# Altium footprint library HD3SS6126RUAR.PcbLib: 4 footprints
Each footprint in its own frame and in the unit in brackets; x right, y up, seen from the top. Pads: shape width x height; smd on the part's side, far side on the other; paste and mask are expansions set on the pad; w line width, h text height; cw(c..) or ccw(c..) is an arc to the next point about the centre after c.
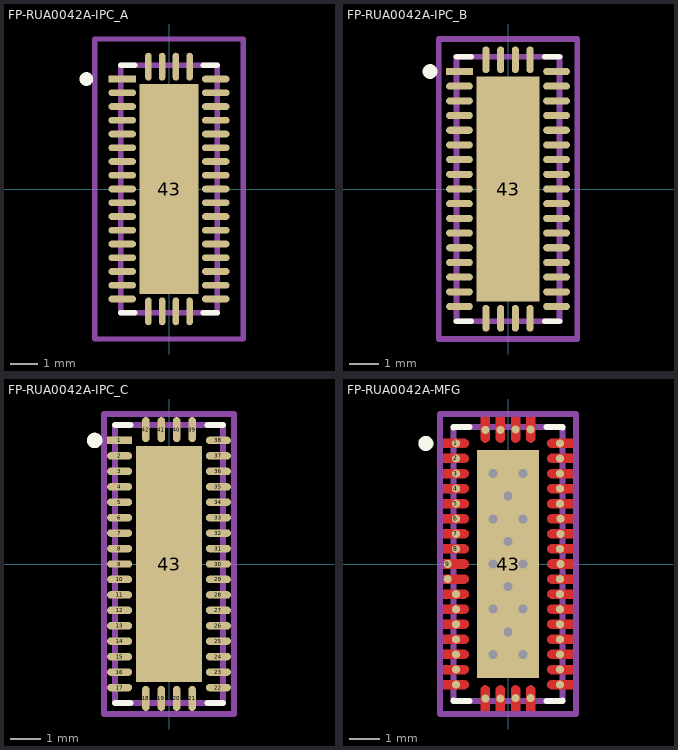
[diagram p0: the footprints below, top view; thin cyan lines are the x and y axes]

## FP-RUA0042A-IPC_A [mm]
pads (43):
  rect 1.01x0.242 smd paste+0 mask+0: 1(-1.701,4)
  rrect100% 1.01x0.242 smd paste+0 mask+0: 2(-1.701,3.5) 3(-1.701,3) 4(-1.701,2.5) 5(-1.701,2) 6(-1.701,1.5) 7(-1.701,1) 8(-1.701,0.5) 9(-1.701,0) 10(-1.701,-0.5) 11(-1.701,-1) 12(-1.701,-1.5) 13(-1.701,-2) 14(-1.701,-2.5) 15(-1.701,-3) 16(-1.701,-3.5) 17(-1.701,-4) 22(1.701,-4) 23(1.701,-3.5) 24(1.701,-3) 25(1.701,-2.5) 26(1.701,-2) 27(1.701,-1.5) 28(1.701,-1) 29(1.701,-0.5) 30(1.701,0) 31(1.701,0.5) 32(1.701,1) 33(1.701,1.5) 34(1.701,2) 35(1.701,2.5) 36(1.701,3) 37(1.701,3.5) 38(1.701,4)
  rrect100% 0.242x1.01 smd paste+0 mask+0: 18(-0.75,-4.451) 19(-0.25,-4.451) 20(0.25,-4.451) 21(0.75,-4.451) 39(0.75,4.451) 40(0.25,4.451) 41(-0.25,4.451) 42(-0.75,4.451)
  rect 2.15x7.65 smd paste-1000 mask+0: 43(0,0)
Top Overlay:
  circle w0.25: c-3.006,4 r0.125
  lines w0.2: -1.75,-4.5 -1.25,-4.5 ; -1.75,4.5 -1.25,4.5 ; 1.25,-4.5 1.75,-4.5 ; 1.25,4.5 1.75,4.5
Top Paste:
  rectangle: -0.771,1.376 0.771,3.521
  rectangle: -0.771,-1.072 0.771,1.072
  rectangle: -0.771,-3.521 0.771,-1.376
Top Assembly:
  lines w0.2: -2.706,-5.456 2.706,-5.456 2.706,5.456 -2.706,5.456 -2.706,-5.456
  text ".Designator" at 0,-0.001 h1
Top 3D Body:
  lines w0.2: -1.75,-4.5 1.75,-4.5 1.75,4.5 -1.75,4.5 -1.75,-4.5
Top Courtyard:
  lines w0.2: -2.706,-5.456 2.706,-5.456 2.706,5.456 -2.706,5.456 -2.706,-5.456
Top Component Center:
  lines w0.1: -0.5,0 0.5,0 ; 0,-0.5 0,0.5
3D body "IC_Texas_Instruments_HD3SS6126RUAR_eec.STEP": height 0.25, standoff 0, extent -2.706,-5.456 2.706,5.456

## FP-RUA0042A-IPC_B [mm]
pads (43):
  rect 0.91x0.242 smd paste+0 mask+0: 1(-1.651,4)
  rrect100% 0.91x0.242 smd paste+0 mask+0: 2(-1.651,3.5) 3(-1.651,3) 4(-1.651,2.5) 5(-1.651,2) 6(-1.651,1.5) 7(-1.651,1) 8(-1.651,0.5) 9(-1.651,0) 10(-1.651,-0.5) 11(-1.651,-1) 12(-1.651,-1.5) 13(-1.651,-2) 14(-1.651,-2.5) 15(-1.651,-3) 16(-1.651,-3.5) 17(-1.651,-4) 22(1.651,-4) 23(1.651,-3.5) 24(1.651,-3) 25(1.651,-2.5) 26(1.651,-2) 27(1.651,-1.5) 28(1.651,-1) 29(1.651,-0.5) 30(1.651,0) 31(1.651,0.5) 32(1.651,1) 33(1.651,1.5) 34(1.651,2) 35(1.651,2.5) 36(1.651,3) 37(1.651,3.5) 38(1.651,4)
  rrect100% 0.242x0.91 smd paste+0 mask+0: 18(-0.75,-4.401) 19(-0.25,-4.401) 20(0.25,-4.401) 21(0.75,-4.401) 39(0.75,4.401) 40(0.25,4.401) 41(-0.25,4.401) 42(-0.75,4.401)
  rect 2.15x7.65 smd paste-1000 mask+0: 43(0,0)
Top Overlay:
  circle w0.25: c-2.656,4 r0.125
  lines w0.2: -1.25,-4.5 -1.75,-4.5 ; -1.25,4.5 -1.75,4.5 ; 1.25,-4.5 1.75,-4.5 ; 1.25,4.5 1.75,4.5 ; -1.75,-4.5 -1.75,-4.5 ; -1.75,4.5 -1.75,4.5 ; 1.75,-4.5 1.75,-4.5 ; 1.75,4.5 1.75,4.5
Top Paste:
  rectangle: -0.771,1.376 0.771,3.521
  rectangle: -0.771,-1.072 0.771,1.072
  rectangle: -0.771,-3.521 0.771,-1.376
Top Assembly:
  lines w0.2: -2.356,-5.106 2.356,-5.106 2.356,5.106 -2.356,5.106 -2.356,-5.106
  text ".Designator" at 0,-0.001 h1
Top 3D Body:
  lines w0.2: -1.75,-4.5 1.75,-4.5 1.75,4.5 -1.75,4.5 -1.75,-4.5
Top Courtyard:
  lines w0.2: -2.356,-5.106 2.356,-5.106 2.356,5.106 -2.356,5.106 -2.356,-5.106
Top Component Center:
  lines w0.1: -0.5,0 0.5,0 ; 0,-0.5 0,0.5
3D body "IC_Texas_Instruments_HD3SS6126RUAR_eec.STEP": height 0.25, standoff 0, extent -2.356,-5.106 2.356,5.106

## FP-RUA0042A-IPC_C [mm]
pads (43):
  rect 0.81x0.242 smd paste+0 mask+0: 1(-1.601,4)
  rrect100% 0.81x0.242 smd paste+0 mask+0: 2(-1.601,3.5) 3(-1.601,3) 4(-1.601,2.5) 5(-1.601,2) 6(-1.601,1.5) 7(-1.601,1) 8(-1.601,0.5) 9(-1.601,0) 10(-1.601,-0.5) 11(-1.601,-1) 12(-1.601,-1.5) 13(-1.601,-2) 14(-1.601,-2.5) 15(-1.601,-3) 16(-1.601,-3.5) 17(-1.601,-4) 22(1.601,-4) 23(1.601,-3.5) 24(1.601,-3) 25(1.601,-2.5) 26(1.601,-2) 27(1.601,-1.5) 28(1.601,-1) 29(1.601,-0.5) 30(1.601,0) 31(1.601,0.5) 32(1.601,1) 33(1.601,1.5) 34(1.601,2) 35(1.601,2.5) 36(1.601,3) 37(1.601,3.5) 38(1.601,4)
  rrect100% 0.242x0.81 smd paste+0 mask+0: 18(-0.75,-4.351) 19(-0.25,-4.351) 20(0.25,-4.351) 21(0.75,-4.351) 39(0.75,4.351) 40(0.25,4.351) 41(-0.25,4.351) 42(-0.75,4.351)
  rect 2.15x7.65 smd paste-1000 mask+0: 43(0,0)
Top Overlay:
  circle w0.25: c-2.406,4 r0.125
  lines w0.2: -1.25,-4.5 -1.75,-4.5 ; -1.25,4.5 -1.75,4.5 ; 1.25,-4.5 1.75,-4.5 ; 1.25,4.5 1.75,4.5 ; -1.75,-4.5 -1.75,-4.5 ; -1.75,4.5 -1.75,4.5 ; 1.75,-4.5 1.75,-4.5 ; 1.75,4.5 1.75,4.5
Top Paste:
  rectangle: -0.771,1.376 0.771,3.521
  rectangle: -0.771,-1.072 0.771,1.072
  rectangle: -0.771,-3.521 0.771,-1.376
Top Assembly:
  lines w0.2: -2.106,-4.856 2.106,-4.856 2.106,4.856 -2.106,4.856 -2.106,-4.856
  text ".Designator" at 0,-0.001 h1
Top 3D Body:
  lines w0.2: -1.75,-4.5 1.75,-4.5 1.75,4.5 -1.75,4.5 -1.75,-4.5
Top Courtyard:
  lines w0.2: -2.106,-4.856 2.106,-4.856 2.106,4.856 -2.106,4.856 -2.106,-4.856
Top Component Center:
  lines w0.1: -0.5,0 0.5,0 ; 0,-0.5 0,0.5
3D body "IC_Texas_Instruments_HD3SS6126RUAR_eec.STEP": height 0.25, standoff 0, extent -2.106,-4.856 2.106,4.856

## FP-RUA0042A-MFG [mm]
pads (53):
  round 0.27 smd paste-1000 mask+0: 1(-1.725,4) 2(-1.725,3.5) 3(-1.725,3) 4(-1.725,2.5) 5(-1.725,2) 6(-1.725,1.5) 7(-1.725,1) 8(-1.725,0.5) 9(-2,0) 10(-2,-0.5) 11(-1.725,-1) 12(-1.725,-1.5) 13(-1.725,-2) 14(-1.725,-2.5) 15(-1.725,-3) 16(-1.725,-3.5) 17(-1.725,-4) 18(-0.75,-4.465) 19(-0.25,-4.465) 20(0.25,-4.45) 21(0.75,-4.45) 22(1.725,-4) 23(1.725,-3.5) 24(1.725,-3) 25(1.725,-2.5) 26(1.725,-2) 27(1.725,-1.5) 28(1.725,-1) 29(1.725,-0.5) 30(1.74,0) 31(1.725,0.5) 32(1.74,1) 33(1.74,1.5) 34(1.725,2) 35(1.725,2.5) 36(1.725,3) 37(1.725,3.5) 38(1.725,4) 39(0.75,4.465) 40(0.25,4.465) 41(-0.25,4.45) 42(-0.75,4.45)
  rect 2.05x7.55 smd paste-1000 mask+0: 43(0,0)
  round 0.6 hole 0.3 paste-1000 mask+0: ""(-0.5,-3) ""(-0.5,-1.5) ""(-0.5,1.5) ""(-0.5,3) ""(0,-2.25) ""(0,2.25) ""(0.5,-3) ""(0.5,-1.5) ""(0.5,1.5) ""(0.5,3)
via 0.5,0 diameter 0.6 hole 0.3
via -0.5,0 diameter 0.6 hole 0.3
via 0,0.75 diameter 0.6 hole 0.3
via 0,-0.75 diameter 0.6 hole 0.3
Top Layer:
  region: -2.15,4.15 -1.45,4.15 -1.42,4.15 -1.365,4.127 -1.323,4.085 -1.3,4.03 -1.3,4 -1.3,3.97 -1.323,3.915 -1.365,3.873 -1.42,3.85 -1.45,3.85 -2.15,3.85
  region: -2.15,3.65 -1.45,3.65 -1.42,3.65 -1.365,3.627 -1.323,3.585 -1.3,3.53 -1.3,3.5 -1.3,3.47 -1.323,3.415 -1.365,3.373 -1.42,3.35 -1.45,3.35 -2.15,3.35
  region: -2.15,3.15 -1.45,3.15 -1.42,3.15 -1.365,3.127 -1.323,3.085 -1.3,3.03 -1.3,3 -1.3,2.97 -1.323,2.915 -1.365,2.873 -1.42,2.85 -1.45,2.85 -2.15,2.85
  region: -2.15,2.65 -1.45,2.65 -1.42,2.65 -1.365,2.627 -1.323,2.585 -1.3,2.53 -1.3,2.5 -1.3,2.47 -1.323,2.415 -1.365,2.373 -1.42,2.35 -1.45,2.35 -2.15,2.35
  region: -2.15,2.15 -1.45,2.15 -1.42,2.15 -1.365,2.127 -1.323,2.085 -1.3,2.03 -1.3,2 -1.3,1.97 -1.323,1.915 -1.365,1.873 -1.42,1.85 -1.45,1.85 -2.15,1.85
  region: -2.15,1.65 -1.45,1.65 -1.42,1.65 -1.365,1.627 -1.323,1.585 -1.3,1.53 -1.3,1.5 -1.3,1.47 -1.323,1.415 -1.365,1.373 -1.42,1.35 -1.45,1.35 -2.15,1.35
  region: -2.15,1.15 -1.45,1.15 -1.42,1.15 -1.365,1.127 -1.323,1.085 -1.3,1.03 -1.3,1 -1.3,0.97 -1.323,0.915 -1.365,0.873 -1.42,0.85 -1.45,0.85 -2.15,0.85
  region: -2.15,0.65 -1.45,0.65 -1.42,0.65 -1.365,0.627 -1.323,0.585 -1.3,0.53 -1.3,0.5 -1.3,0.47 -1.323,0.415 -1.365,0.373 -1.42,0.35 -1.45,0.35 -2.15,0.35
  region: -2.15,0.15 -1.45,0.15 -1.42,0.15 -1.365,0.127 -1.323,0.085 -1.3,0.03 -1.3,0 -1.3,-0.03 -1.323,-0.085 -1.365,-0.127 -1.42,-0.15 -1.45,-0.15 -2.15,-0.15
  region: -2.15,-0.35 -1.45,-0.35 -1.42,-0.35 -1.365,-0.373 -1.323,-0.415 -1.3,-0.47 -1.3,-0.5 -1.3,-0.53 -1.323,-0.585 -1.365,-0.627 -1.42,-0.65 -1.45,-0.65 -2.15,-0.65
  region: -2.15,-0.85 -1.45,-0.85 -1.42,-0.85 -1.365,-0.873 -1.323,-0.915 -1.3,-0.97 -1.3,-1 -1.3,-1.03 -1.323,-1.085 -1.365,-1.127 -1.42,-1.15 -1.45,-1.15 -2.15,-1.15
  region: -2.15,-1.35 -1.45,-1.35 -1.42,-1.35 -1.365,-1.373 -1.323,-1.415 -1.3,-1.47 -1.3,-1.5 -1.3,-1.53 -1.323,-1.585 -1.365,-1.627 -1.42,-1.65 -1.45,-1.65 -2.15,-1.65
  region: -2.15,-1.85 -1.45,-1.85 -1.42,-1.85 -1.365,-1.873 -1.323,-1.915 -1.3,-1.97 -1.3,-2 -1.3,-2.03 -1.323,-2.085 -1.365,-2.127 -1.42,-2.15 -1.45,-2.15 -2.15,-2.15
  region: -2.15,-2.35 -1.45,-2.35 -1.42,-2.35 -1.365,-2.373 -1.323,-2.415 -1.3,-2.47 -1.3,-2.5 -1.3,-2.53 -1.323,-2.585 -1.365,-2.627 -1.42,-2.65 -1.45,-2.65 -2.15,-2.65
  region: -2.15,-2.85 -1.45,-2.85 -1.42,-2.85 -1.365,-2.873 -1.323,-2.915 -1.3,-2.97 -1.3,-3 -1.3,-3.03 -1.323,-3.085 -1.365,-3.127 -1.42,-3.15 -1.45,-3.15 -2.15,-3.15
  region: -2.15,-3.35 -1.45,-3.35 -1.42,-3.35 -1.365,-3.373 -1.323,-3.415 -1.3,-3.47 -1.3,-3.5 -1.3,-3.53 -1.323,-3.585 -1.365,-3.627 -1.42,-3.65 -1.45,-3.65 -2.15,-3.65
  region: -2.15,-3.85 -1.45,-3.85 -1.42,-3.85 -1.365,-3.873 -1.323,-3.915 -1.3,-3.97 -1.3,-4 -1.3,-4.03 -1.323,-4.085 -1.365,-4.127 -1.42,-4.15 -1.45,-4.15 -2.15,-4.15
  region: -0.9,-4.875 -0.9,-4.175 -0.9,-4.145 -0.877,-4.09 -0.835,-4.048 -0.78,-4.025 -0.75,-4.025 -0.72,-4.025 -0.665,-4.048 -0.623,-4.09 -0.6,-4.145 -0.6,-4.175 -0.6,-4.875
  region: -0.4,-4.875 -0.4,-4.175 -0.4,-4.145 -0.377,-4.09 -0.335,-4.048 -0.28,-4.025 -0.25,-4.025 -0.22,-4.025 -0.165,-4.048 -0.123,-4.09 -0.1,-4.145 -0.1,-4.175 -0.1,-4.875
  region: 0.1,-4.875 0.1,-4.175 0.1,-4.145 0.123,-4.09 0.165,-4.048 0.22,-4.025 0.25,-4.025 0.28,-4.025 0.335,-4.048 0.377,-4.09 0.4,-4.145 0.4,-4.175 0.4,-4.875
  region: 0.6,-4.875 0.6,-4.175 0.6,-4.145 0.623,-4.09 0.665,-4.048 0.72,-4.025 0.75,-4.025 0.78,-4.025 0.835,-4.048 0.877,-4.09 0.9,-4.145 0.9,-4.175 0.9,-4.875
  region: 2.15,-4.15 1.45,-4.15 1.42,-4.15 1.365,-4.127 1.323,-4.085 1.3,-4.03 1.3,-4 1.3,-3.97 1.323,-3.915 1.365,-3.873 1.42,-3.85 1.45,-3.85 2.15,-3.85
  region: 2.15,-3.65 1.45,-3.65 1.42,-3.65 1.365,-3.627 1.323,-3.585 1.3,-3.53 1.3,-3.5 1.3,-3.47 1.323,-3.415 1.365,-3.373 1.42,-3.35 1.45,-3.35 2.15,-3.35
  region: 2.15,-3.15 1.45,-3.15 1.42,-3.15 1.365,-3.127 1.323,-3.085 1.3,-3.03 1.3,-3 1.3,-2.97 1.323,-2.915 1.365,-2.873 1.42,-2.85 1.45,-2.85 2.15,-2.85
  region: 2.15,-2.65 1.45,-2.65 1.42,-2.65 1.365,-2.627 1.323,-2.585 1.3,-2.53 1.3,-2.5 1.3,-2.47 1.323,-2.415 1.365,-2.373 1.42,-2.35 1.45,-2.35 2.15,-2.35
  region: 2.15,-2.15 1.45,-2.15 1.42,-2.15 1.365,-2.127 1.323,-2.085 1.3,-2.03 1.3,-2 1.3,-1.97 1.323,-1.915 1.365,-1.873 1.42,-1.85 1.45,-1.85 2.15,-1.85
  region: 2.15,-1.65 1.45,-1.65 1.42,-1.65 1.365,-1.627 1.323,-1.585 1.3,-1.53 1.3,-1.5 1.3,-1.47 1.323,-1.415 1.365,-1.373 1.42,-1.35 1.45,-1.35 2.15,-1.35
  region: 2.15,-1.15 1.45,-1.15 1.42,-1.15 1.365,-1.127 1.323,-1.085 1.3,-1.03 1.3,-1 1.3,-0.97 1.323,-0.915 1.365,-0.873 1.42,-0.85 1.45,-0.85 2.15,-0.85
  region: 2.15,-0.65 1.45,-0.65 1.42,-0.65 1.365,-0.627 1.323,-0.585 1.3,-0.53 1.3,-0.5 1.3,-0.47 1.323,-0.415 1.365,-0.373 1.42,-0.35 1.45,-0.35 2.15,-0.35
  region: 2.15,-0.15 1.45,-0.15 1.42,-0.15 1.365,-0.127 1.323,-0.085 1.3,-0.03 1.3,0 1.3,0.03 1.323,0.085 1.365,0.127 1.42,0.15 1.45,0.15 2.15,0.15
  region: 2.15,0.35 1.45,0.35 1.42,0.35 1.365,0.373 1.323,0.415 1.3,0.47 1.3,0.5 1.3,0.53 1.323,0.585 1.365,0.627 1.42,0.65 1.45,0.65 2.15,0.65
  region: 2.15,0.85 1.45,0.85 1.42,0.85 1.365,0.873 1.323,0.915 1.3,0.97 1.3,1 1.3,1.03 1.323,1.085 1.365,1.127 1.42,1.15 1.45,1.15 2.15,1.15
  region: 2.15,1.35 1.45,1.35 1.42,1.35 1.365,1.373 1.323,1.415 1.3,1.47 1.3,1.5 1.3,1.53 1.323,1.585 1.365,1.627 1.42,1.65 1.45,1.65 2.15,1.65
  region: 2.15,1.85 1.45,1.85 1.42,1.85 1.365,1.873 1.323,1.915 1.3,1.97 1.3,2 1.3,2.03 1.323,2.085 1.365,2.127 1.42,2.15 1.45,2.15 2.15,2.15
  region: 2.15,2.35 1.45,2.35 1.42,2.35 1.365,2.373 1.323,2.415 1.3,2.47 1.3,2.5 1.3,2.53 1.323,2.585 1.365,2.627 1.42,2.65 1.45,2.65 2.15,2.65
  region: 2.15,2.85 1.45,2.85 1.42,2.85 1.365,2.873 1.323,2.915 1.3,2.97 1.3,3 1.3,3.03 1.323,3.085 1.365,3.127 1.42,3.15 1.45,3.15 2.15,3.15
  region: 2.15,3.35 1.45,3.35 1.42,3.35 1.365,3.373 1.323,3.415 1.3,3.47 1.3,3.5 1.3,3.53 1.323,3.585 1.365,3.627 1.42,3.65 1.45,3.65 2.15,3.65
  region: 2.15,3.85 1.45,3.85 1.42,3.85 1.365,3.873 1.323,3.915 1.3,3.97 1.3,4 1.3,4.03 1.323,4.085 1.365,4.127 1.42,4.15 1.45,4.15 2.15,4.15
  region: 0.9,4.875 0.9,4.175 0.9,4.145 0.877,4.09 0.835,4.048 0.78,4.025 0.75,4.025 0.72,4.025 0.665,4.048 0.623,4.09 0.6,4.145 0.6,4.175 0.6,4.875
  region: 0.4,4.875 0.4,4.175 0.4,4.145 0.377,4.09 0.335,4.048 0.28,4.025 0.25,4.025 0.22,4.025 0.165,4.048 0.123,4.09 0.1,4.145 0.1,4.175 0.1,4.875
  region: -0.1,4.875 -0.1,4.175 -0.1,4.145 -0.123,4.09 -0.165,4.048 -0.22,4.025 -0.25,4.025 -0.28,4.025 -0.335,4.048 -0.377,4.09 -0.4,4.145 -0.4,4.175 -0.4,4.875
  region: -0.6,4.875 -0.6,4.175 -0.6,4.145 -0.623,4.09 -0.665,4.048 -0.72,4.025 -0.75,4.025 -0.78,4.025 -0.835,4.048 -0.877,4.09 -0.9,4.145 -0.9,4.175 -0.9,4.875
Top Overlay:
  circle w0.25: c-2.725,4 r0.125
  lines w0.2: -1.8,-4.525 -1.8,-4.55 -1.275,-4.55 ; -1.8,4.525 -1.8,4.55 -1.275,4.55 ; 1.275,-4.55 1.8,-4.55 1.8,-4.525 ; 1.275,4.55 1.8,4.55 1.8,4.525
Top Paste:
  drawing of 54 lines, arcs and shapes, not listed
Top Assembly:
  lines w0.2: -2.25,-4.975 2.25,-4.975 2.25,4.975 -2.25,4.975 -2.25,-4.975
  text ".Designator" at 0,-0.001 h1
Top 3D Body:
  lines w0.2: -1.8,-4.55 1.8,-4.55 1.8,4.55 -1.8,4.55 -1.8,-4.55
Top Courtyard:
  lines w0.2: -2.25,-4.975 2.25,-4.975 2.25,4.975 -2.25,4.975 -2.25,-4.975
Top Component Center:
  lines w0.1: -0.5,0 0.5,0 ; 0,-0.5 0,0.5
3D body "IC_Texas_Instruments_HD3SS6126RUAR_eec.STEP": height 0.25, standoff 0, extent -2.25,-4.975 2.25,4.975